# EAGLE library part PIC16LF1459 (library PIC16LF1459)
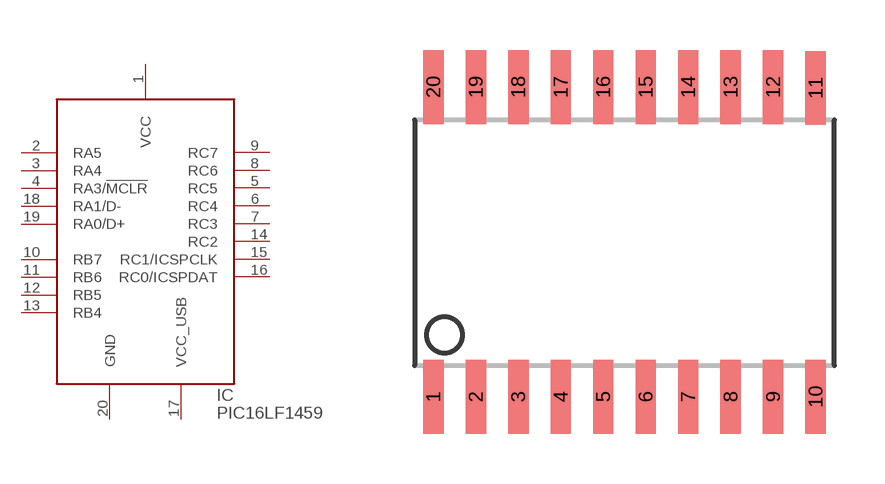
[diagram p0: symbol with the pads of SOIC20; footprint SOIC20]

Designator prefix IC

## PIC16LF1459  [SOIC20]
1  VCC  pas
2  RA5  pas
3  RA4  pas
4  RA3/!MCLR  pas
5  RC5  pas
6  RC4  pas
7  RC3  pas
8  RC6  pas
9  RC7  pas
10  RB7  pas
11  RB6  pas
12  RB5  pas
13  RB4  pas
14  RC2  pas
15  RC1/ICSPCLK  pas
16  RC0/ICSPDAT  pas
17  VCC_USB  pas
18  RA1/D-  pas
19  RA0/D+  pas
20  GND  pas

## Footprint SOIC20 (pad centres in mm)
smd 0.61 x 2.21: 1 -5.715,-4.636; 2 -4.445,-4.636; 3 -3.175,-4.636; 4 -1.905,-4.636; 5 -0.635,-4.636; 6 0.635,-4.636; 7 1.905,-4.636; 8 3.175,-4.636; 9 4.445,-4.636; 10 5.715,-4.636; 11 5.715,4.61; 12 4.445,4.636; 13 3.175,4.636; 14 1.905,4.636; 15 0.635,4.636; 16 -0.635,4.636; 17 -1.905,4.636; 18 -3.175,4.636; 19 -4.445,4.636; 20 -5.715,4.636